# Altium footprint library MCU库PCB图.PcbLib: 8 footprints
Each footprint in its own frame and in the unit in brackets; x right, y up, seen from the top. Pads: shape width x height; smd on the part's side, far side on the other; paste and mask are expansions set on the pad; w line width, h text height; cw(c..) or ccw(c..) is an arc to the next point about the centre after c.
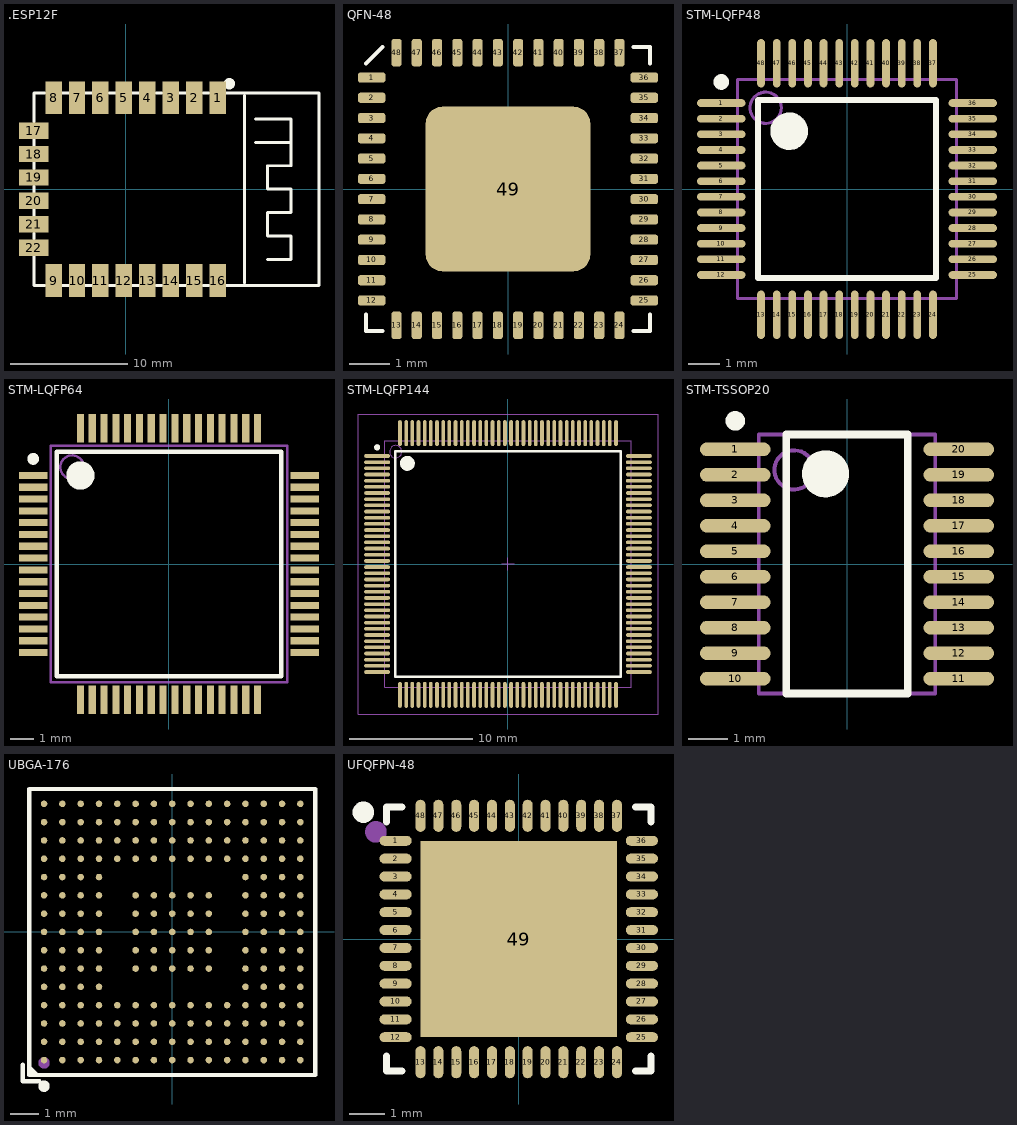
[diagram p0: the footprints below, top view; thin cyan lines are the x and y axes]

## .ESP12F [mm]
pads (22):
  rect 1.4x2.8 smd mask+0.051: 1(7.85,7.8) 2(5.85,7.8) 3(3.85,7.8) 4(1.85,7.8) 5(-0.15,7.8) 6(-2.15,7.8) 7(-4.15,7.8) 8(-6.15,7.8) 9(-6.15,-7.8) 10(-4.15,-7.8) 11(-2.15,-7.8) 12(-0.15,-7.8) 13(1.85,-7.8) 14(3.85,-7.8) 15(5.85,-7.8) 16(7.85,-7.8)
  rect 2.5x1.4 smd mask+0.051: 17(-7.85,5) 18(-7.85,3) 19(-7.85,1) 20(-7.85,-1) 21(-7.85,-3) 22(-7.85,-5)
Top Overlay:
  circle w0.5: c8.85,9 r0.232
  lines w0.254: -7.8,-5.731 -7.8,-8.2 -6.881,-8.2 ; -7.8,-4.269 -7.8,-3.731 ; -7.8,-2.269 -7.8,-1.731 ; -7.8,-0.269 -7.8,0.269 ; -7.8,1.731 -7.8,2.269 ; -7.8,3.731 -7.8,4.269 ; -7.8,5.731 -7.8,8.2 -6.881,8.2 ; -5.419,-8.2 -4.881,-8.2 ; -5.419,8.2 -4.881,8.2 ; -3.419,-8.2 -2.881,-8.2 ; -3.419,8.2 -2.881,8.2 ; -1.419,-8.2 -0.881,-8.2 ; -1.419,8.2 -0.881,8.2 ; 0.581,-8.2 1.119,-8.2 ; 0.581,8.2 1.119,8.2 ; 2.581,-8.2 3.119,-8.2 ; 2.581,8.2 3.119,8.2 ; 4.581,-8.2 5.119,-8.2 ; 4.581,8.2 5.119,8.2 ; 6.581,-8.2 7.119,-8.2 ; 6.581,8.2 7.119,8.2 ; 8.581,-8.2 16.5,-8.2 16.5,8.2 8.581,8.2 ; 10.156,-8.001 10.156,8.001 ; 11.1,4 14.1,4 ; 11.1,6 14.1,6 14.1,4 ; 12.1,-6 14.1,-6 14.1,-4 12.1,-4 12.1,-2 14.1,-2 14.1,0 12.1,0 12.1,2 14.1,2 14.1,4
Mechanical 6:
  circle w0.6: c7.8,8.4 r0.3
3D body "ESP-12F.step": height 2.9, standoff -0.05, extent -7.682,-8 16.318,8

## QFN-48 [mm]
height 4.3
pads (49):
  rrect50% 0.675x0.25 smd: 1(-3.363,2.75) 2(-3.363,2.25) 3(-3.363,1.75) 4(-3.363,1.25) 5(-3.363,0.75) 6(-3.363,0.25) 7(-3.363,-0.25) 8(-3.363,-0.75) 9(-3.363,-1.25) 10(-3.363,-1.75) 11(-3.363,-2.25) 12(-3.363,-2.75) 25(3.363,-2.75) 26(3.363,-2.25) 27(3.363,-1.75) 28(3.363,-1.25) 29(3.363,-0.75) 30(3.363,-0.25) 31(3.363,0.25) 32(3.363,0.75) 33(3.363,1.25) 34(3.363,1.75) 35(3.363,2.25) 36(3.363,2.75)
  rrect50% 0.25x0.675 smd: 13(-2.75,-3.363) 14(-2.25,-3.363) 15(-1.75,-3.363) 16(-1.25,-3.363) 17(-0.75,-3.363) 18(-0.25,-3.363) 19(0.25,-3.363) 20(0.75,-3.363) 21(1.25,-3.363) 22(1.75,-3.363) 23(2.25,-3.363) 24(2.75,-3.363) 37(2.75,3.363) 38(2.25,3.363) 39(1.75,3.363) 40(1.25,3.363) 41(0.75,3.363) 42(0.25,3.363) 43(-0.25,3.363) 44(-0.75,3.363) 45(-1.25,3.363) 46(-1.75,3.363) 47(-2.25,3.363) 48(-2.75,3.363)
  rrect20% 4.064x4.064 smd: 49(0,0)
Top Overlay:
  lines w0.1: -3.5,-3.1 -3.5,-3.5 -3.1,-3.5 ; -3.5,3.1 -3.1,3.5 ; 3.1,-3.5 3.5,-3.5 3.5,-3.1 ; 3.1,3.5 3.5,3.5 3.5,3.1
3D body: height 1, standoff 0.05, extent -3.5,-3.5 3.5,3.5

## STM-LQFP48 [mm]
pads (48):
  oval 1.55x0.25 smd: 1(-4.025,2.75) 2(-4.025,2.25) 3(-4.025,1.75) 4(-4.025,1.25) 5(-4.025,0.75) 6(-4.025,0.25) 7(-4.025,-0.25) 8(-4.025,-0.75) 9(-4.025,-1.25) 10(-4.025,-1.75) 11(-4.025,-2.25) 12(-4.025,-2.75) 25(4.025,-2.75) 26(4.025,-2.25) 27(4.025,-1.75) 28(4.025,-1.25) 29(4.025,-0.75) 30(4.025,-0.25) 31(4.025,0.25) 32(4.025,0.75) 33(4.025,1.25) 34(4.025,1.75) 35(4.025,2.25) 36(4.025,2.75)
  oval 0.25x1.55 smd: 13(-2.75,-4.025) 14(-2.25,-4.025) 15(-1.75,-4.025) 16(-1.25,-4.025) 17(-0.75,-4.025) 18(-0.25,-4.025) 19(0.25,-4.025) 20(0.75,-4.025) 21(1.25,-4.025) 22(1.75,-4.025) 23(2.25,-4.025) 24(2.75,-4.025) 37(2.75,4.025) 38(2.25,4.025) 39(1.75,4.025) 40(1.25,4.025) 41(0.75,4.025) 42(0.25,4.025) 43(-0.25,4.025) 44(-0.75,4.025) 45(-1.25,4.025) 46(-1.75,4.025) 47(-2.25,4.025) 48(-2.75,4.025)
Top Overlay:
  circle w0.6: c-1.85,1.85 r0.3
  circle w0.25: c-4.025,3.425 r0.125
  lines w0.2: -2.85,-2.85 2.85,-2.85 2.85,2.85 -2.85,2.85 -2.85,-2.85
Mechanical 13:
  circle w0.1: c-2.6,2.6 r0.5
  lines w0.1: -3.5,-3.5 3.5,-3.5 3.5,3.5 -3.5,3.5 -3.5,-3.5
3D body: height 1.6, standoff 0.05, extent -3.5,-3.5 3.5,3.5

## STM-LQFP64 [mm] "Thin QFP, 64-Leads, Body 10x10mm, Pitch 0.5mm, ST Recommended"
height 1.6
pads (64):
  rect 1.2x0.3 smd: 1(-5.75,3.75) 2(-5.75,3.25) 3(-5.75,2.75) 4(-5.75,2.25) 5(-5.75,1.75) 6(-5.75,1.25) 7(-5.75,0.75) 8(-5.75,0.25) 9(-5.75,-0.25) 10(-5.75,-0.75) 11(-5.75,-1.25) 12(-5.75,-1.75) 13(-5.75,-2.25) 14(-5.75,-2.75) 15(-5.75,-3.25) 16(-5.75,-3.75) 33(5.75,-3.75) 34(5.75,-3.25) 35(5.75,-2.75) 36(5.75,-2.25) 37(5.75,-1.75) 38(5.75,-1.25) 39(5.75,-0.75) 40(5.75,-0.25) 41(5.75,0.25) 42(5.75,0.75) 43(5.75,1.25) 44(5.75,1.75) 45(5.75,2.25) 46(5.75,2.75) 47(5.75,3.25) 48(5.75,3.75)
  rect 0.3x1.2 smd: 17(-3.75,-5.75) 18(-3.25,-5.75) 19(-2.75,-5.75) 20(-2.25,-5.75) 21(-1.75,-5.75) 22(-1.25,-5.75) 23(-0.75,-5.75) 24(-0.25,-5.75) 25(0.25,-5.75) 26(0.75,-5.75) 27(1.25,-5.75) 28(1.75,-5.75) 29(2.25,-5.75) 30(2.75,-5.75) 31(3.25,-5.75) 32(3.75,-5.75) 49(3.75,5.75) 50(3.25,5.75) 51(2.75,5.75) 52(2.25,5.75) 53(1.75,5.75) 54(1.25,5.75) 55(0.75,5.75) 56(0.25,5.75) 57(-0.25,5.75) 58(-0.75,5.75) 59(-1.25,5.75) 60(-1.75,5.75) 61(-2.25,5.75) 62(-2.75,5.75) 63(-3.25,5.75) 64(-3.75,5.75)
Top Overlay:
  circle w0.25: c-5.75,4.45 r0.125
  circle w0.6: c-3.75,3.75 r0.3
  lines w0.2: -4.75,-4.75 -4.75,4.75 4.75,4.75 4.75,-4.75 -4.75,-4.75
Mechanical 13:
  circle w0.1: c-4.1,4.1 r0.5
  lines w0.1: -5,-5 -5,5 5,5 5,-5 -5,-5
3D body: height 1.6, standoff 0.05, extent -5,-5 5,5

## STM-LQFP144 [mm]
height 1.6
pads (144):
  oval 2.1x0.3 smd: 1(-10.6,8.75) 2(-10.6,8.25) 3(-10.6,7.75) 4(-10.6,7.25) 5(-10.6,6.75) 6(-10.6,6.25) 7(-10.6,5.75) 8(-10.6,5.25) 9(-10.6,4.75) 10(-10.6,4.25) 11(-10.6,3.75) 12(-10.6,3.25) 13(-10.6,2.75) 14(-10.6,2.25) 15(-10.6,1.75) 16(-10.6,1.25) 17(-10.6,0.75) 18(-10.6,0.25) 19(-10.6,-0.25) 20(-10.6,-0.75) 21(-10.6,-1.25) 22(-10.6,-1.75) 23(-10.6,-2.25) 24(-10.6,-2.75) 25(-10.6,-3.25) 26(-10.6,-3.75) 27(-10.6,-4.25) 28(-10.6,-4.75) 29(-10.6,-5.25) 30(-10.6,-5.75) 31(-10.6,-6.25) 32(-10.6,-6.75) 33(-10.6,-7.25) 34(-10.6,-7.75) 35(-10.6,-8.25) 36(-10.6,-8.75) 73(10.6,-8.75) 74(10.6,-8.25) 75(10.6,-7.75) 76(10.6,-7.25) 77(10.6,-6.75) 78(10.6,-6.25) 79(10.6,-5.75) 80(10.6,-5.25) 81(10.6,-4.75) 82(10.6,-4.25) 83(10.6,-3.75) 84(10.6,-3.25) 85(10.6,-2.75) 86(10.6,-2.25) 87(10.6,-1.75) 88(10.6,-1.25) 89(10.6,-0.75) 90(10.6,-0.25) 91(10.6,0.25) 92(10.6,0.75) 93(10.6,1.25) 94(10.6,1.75) 95(10.6,2.25) 96(10.6,2.75) 97(10.6,3.25) 98(10.6,3.75) 99(10.6,4.25) 100(10.6,4.75) 101(10.6,5.25) 102(10.6,5.75) 103(10.6,6.25) 104(10.6,6.75) 105(10.6,7.25) 106(10.6,7.75) 107(10.6,8.25) 108(10.6,8.75)
  oval 0.3x2.1 smd: 37(-8.75,-10.6) 38(-8.25,-10.6) 39(-7.75,-10.6) 40(-7.25,-10.6) 41(-6.75,-10.6) 42(-6.25,-10.6) 43(-5.75,-10.6) 44(-5.25,-10.6) 45(-4.75,-10.6) 46(-4.25,-10.6) 47(-3.75,-10.6) 48(-3.25,-10.6) 49(-2.75,-10.6) 50(-2.25,-10.6) 51(-1.75,-10.6) 52(-1.25,-10.6) 53(-0.75,-10.6) 54(-0.25,-10.6) 55(0.25,-10.6) 56(0.75,-10.6) 57(1.25,-10.6) 58(1.75,-10.6) 59(2.25,-10.6) 60(2.75,-10.6) 61(3.25,-10.6) 62(3.75,-10.6) 63(4.25,-10.6) 64(4.75,-10.6) 65(5.25,-10.6) 66(5.75,-10.6) 67(6.25,-10.6) 68(6.75,-10.6) 69(7.25,-10.6) 70(7.75,-10.6) 71(8.25,-10.6) 72(8.75,-10.6) 109(8.75,10.6) 110(8.25,10.6) 111(7.75,10.6) 112(7.25,10.6) 113(6.75,10.6) 114(6.25,10.6) 115(5.75,10.6) 116(5.25,10.6) 117(4.75,10.6) 118(4.25,10.6) 119(3.75,10.6) 120(3.25,10.6) 121(2.75,10.6) 122(2.25,10.6) 123(1.75,10.6) 124(1.25,10.6) 125(0.75,10.6) 126(0.25,10.6) 127(-0.25,10.6) 128(-0.75,10.6) 129(-1.25,10.6) 130(-1.75,10.6) 131(-2.25,10.6) 132(-2.75,10.6) 133(-3.25,10.6) 134(-3.75,10.6) 135(-4.25,10.6) 136(-4.75,10.6) 137(-5.25,10.6) 138(-5.75,10.6) 139(-6.25,10.6) 140(-6.75,10.6) 141(-7.25,10.6) 142(-7.75,10.6) 143(-8.25,10.6) 144(-8.75,10.6)
Top Overlay:
  circle w0.25: c-10.6,9.45 r0.125
  circle w0.6: c-8.15,8.15 r0.3
  lines w0.2: -9.15,-9.15 -9.15,9.15 9.15,9.15 9.15,-9.15 -9.15,-9.15
Mechanical 13:
  circle w0.1: c-9.1,9.1 r0.5
  lines w0.1: -10,-10 -10,10 10,10 10,-10 -10,-10
Mechanical 15:
  lines w0.05: -12.15,-12.15 -12.15,12.15 12.15,12.15 12.15,-12.15 -12.15,-12.15
  lines w0.1: -0.5,0 0.5,0 ; 0,-0.5 0,0.5
3D body: height 1.6, standoff 0.05, extent -10,-10 10,10

## STM-TSSOP20 [mm]
pads (20):
  oval 1.8x0.35 smd: 1(-2.85,2.925) 2(-2.85,2.275) 3(-2.85,1.625) 4(-2.85,0.975) 5(-2.85,0.325) 6(-2.85,-0.325) 7(-2.85,-0.975) 8(-2.85,-1.625) 9(-2.85,-2.275) 10(-2.85,-2.925) 11(2.85,-2.925) 12(2.85,-2.275) 13(2.85,-1.625) 14(2.85,-0.975) 15(2.85,-0.325) 16(2.85,0.325) 17(2.85,0.975) 18(2.85,1.625) 19(2.85,2.275) 20(2.85,2.925)
Top Overlay:
  circle w0.6: c-0.55,2.3 r0.3
  circle w0.25: c-2.85,3.65 r0.125
  lines w0.2: -1.55,-3.3 1.55,-3.3 1.55,3.3 -1.55,3.3 -1.55,-3.3
Mechanical 13:
  circle w0.1: c-1.35,2.4 r0.5
  lines w0.1: -2.25,-3.3 2.25,-3.3 2.25,3.3 -2.25,3.3 -2.25,-3.3
3D body: height 1.2, standoff 0.05, extent -2.25,-3.3 2.25,3.3

## UBGA-176 [mm] "W1.0_L1.0，已知适用于STM32F407IGH6"
pads (201):
  round 0.232 smd: A1(-4.55,-4.55) A2(-4.55,-3.9) A3(-4.55,-3.25) A4(-4.55,-2.6) A5(-4.55,-1.95) A6(-4.55,-1.3) A7(-4.55,-0.65) A8(-4.55,0) A9(-4.55,0.65) A10(-4.55,1.3) A11(-4.55,1.95) A12(-4.55,2.6) A13(-4.55,3.25) A14(-4.55,3.9) A15(-4.55,4.55) B1(-3.9,-4.55) B2(-3.9,-3.9) B3(-3.9,-3.25) B4(-3.9,-2.6) B5(-3.9,-1.95) B6(-3.9,-1.3) B7(-3.9,-0.65) B8(-3.9,0) B9(-3.9,0.65) B10(-3.9,1.3) B11(-3.9,1.95) B12(-3.9,2.6) B13(-3.9,3.25) B14(-3.9,3.9) B15(-3.9,4.55) C1(-3.25,-4.55) C2(-3.25,-3.9) C3(-3.25,-3.25) C4(-3.25,-2.6) C5(-3.25,-1.95) C6(-3.25,-1.3) C7(-3.25,-0.65) C8(-3.25,0) C9(-3.25,0.65) C10(-3.25,1.3) C11(-3.25,1.95) C12(-3.25,2.6) C13(-3.25,3.25) C14(-3.25,3.9) C15(-3.25,4.55) D1(-2.6,-4.55) D2(-2.6,-3.9) D3(-2.6,-3.25) D4(-2.6,-2.6) D5(-2.6,-1.95) D6(-2.6,-1.3) D7(-2.6,-0.65) D8(-2.6,0) D9(-2.6,0.65) D10(-2.6,1.3) D11(-2.6,1.95) D12(-2.6,2.6) D13(-2.6,3.25) D14(-2.6,3.9) D15(-2.6,4.55) E1(-1.95,-4.55) E2(-1.95,-3.9) E3(-1.95,-3.25) E4(-1.95,-2.6) E12(-1.95,2.6) E13(-1.95,3.25) E14(-1.95,3.9) E15(-1.95,4.55) F1(-1.3,-4.55) F2(-1.3,-3.9) F3(-1.3,-3.25) F4(-1.3,-2.6) F6(-1.3,-1.3) F7(-1.3,-0.65) F8(-1.3,0) F9(-1.3,0.65) F10(-1.3,1.3) F12(-1.3,2.6) F13(-1.3,3.25) F14(-1.3,3.9) F15(-1.3,4.55) G1(-0.65,-4.55) G2(-0.65,-3.9) G3(-0.65,-3.25) G4(-0.65,-2.6) G6(-0.65,-1.3) G7(-0.65,-0.65) G8(-0.65,0) G9(-0.65,0.65) G10(-0.65,1.3) G12(-0.65,2.6) G13(-0.65,3.25) G14(-0.65,3.9) G15(-0.65,4.55) H1(0,-4.55) H2(0,-3.9) H3(0,-3.25) H4(0,-2.6) H6(0,-1.3) H7(0,-0.65) H8(0,0) H9(0,0.65) H10(0,1.3) H12(0,2.6) H13(0,3.25) H14(0,3.9) H15(0,4.55) J1(0.65,-4.55) J2(0.65,-3.9) J3(0.65,-3.25) J4(0.65,-2.6) J6(0.65,-1.3) J7(0.65,-0.65) J8(0.65,0) J9(0.65,0.65) J10(0.65,1.3) J12(0.65,2.6) J13(0.65,3.25) J14(0.65,3.9) J15(0.65,4.55) K1(1.3,-4.55) K2(1.3,-3.9) K3(1.3,-3.25) K4(1.3,-2.6) K6(1.3,-1.3) K7(1.3,-0.65) K8(1.3,0) K9(1.3,0.65) K10(1.3,1.3) K12(1.3,2.6) K13(1.3,3.25) K14(1.3,3.9) K15(1.3,4.55) L1(1.95,-4.55) L2(1.95,-3.9) L3(1.95,-3.25) L4(1.95,-2.6) L12(1.95,2.6) L13(1.95,3.25) L14(1.95,3.9) L15(1.95,4.55) M1(2.6,-4.55) M2(2.6,-3.9) M3(2.6,-3.25) M4(2.6,-2.6) M5(2.6,-1.95) M6(2.6,-1.3) M7(2.6,-0.65) M8(2.6,0) M9(2.6,0.65) M10(2.6,1.3) M11(2.6,1.95) M12(2.6,2.6) M13(2.6,3.25) M14(2.6,3.9) M15(2.6,4.55) N1(3.25,-4.55) N2(3.25,-3.9) N3(3.25,-3.25) N4(3.25,-2.6) N5(3.25,-1.95) N6(3.25,-1.3) N7(3.25,-0.65) N8(3.25,0) N9(3.25,0.65) N10(3.25,1.3) N11(3.25,1.95) N12(3.25,2.6) N13(3.25,3.25) N14(3.25,3.9) N15(3.25,4.55) P1(3.9,-4.55) P2(3.9,-3.9) P3(3.9,-3.25) P4(3.9,-2.6) P5(3.9,-1.95) P6(3.9,-1.3) P7(3.9,-0.65) P8(3.9,0) P9(3.9,0.65) P10(3.9,1.3) P11(3.9,1.95) P12(3.9,2.6) P13(3.9,3.25) P14(3.9,3.9) P15(3.9,4.55) R1(4.55,-4.55) R2(4.55,-3.9) R3(4.55,-3.25) R4(4.55,-2.6) R5(4.55,-1.95) R6(4.55,-1.3) R7(4.55,-0.65) R8(4.55,0) R9(4.55,0.65) R10(4.55,1.3) R11(4.55,1.95) R12(4.55,2.6) R13(4.55,3.25) R14(4.55,3.9) R15(4.55,4.55)
Top Overlay:
  circle w0.2: c-4.55,-5.476 r0.1
  region: -5.076,-4.716 -4.716,-5.076 -5.076,-5.076
  lines w0.152: -5.305,-4.716 -5.305,-5.305 -4.716,-5.305 ; -5.076,-5.076 5.076,-5.076 5.076,5.076 -5.076,5.076 -5.076,-5.076
Top Paste:
  drawing of 201 lines, arcs and shapes, not listed
Mechanical 15:
  circle w0.2: c-4.55,-4.65 r0.1
  region: -5.076,-4.716 -4.716,-5.076 -5.076,-5.076

## UFQFPN-48 [mm]
pads (49):
  oval 0.9x0.28 smd: 1(-3.449,2.751) 2(-3.449,2.25) 3(-3.449,1.75) 4(-3.449,1.25) 5(-3.449,0.749) 6(-3.449,0.249) 7(-3.449,-0.249) 8(-3.449,-0.749) 9(-3.449,-1.25) 10(-3.449,-1.75) 11(-3.449,-2.25) 12(-3.449,-2.751) 25(3.449,-2.751) 26(3.449,-2.25) 27(3.449,-1.75) 28(3.449,-1.25) 29(3.449,-0.749) 30(3.449,-0.249) 31(3.449,0.249) 32(3.449,0.749) 33(3.449,1.25) 34(3.449,1.75) 35(3.449,2.25) 36(3.449,2.751)
  oval 0.28x0.9 smd: 13(-2.751,-3.449) 14(-2.25,-3.449) 15(-1.75,-3.449) 16(-1.25,-3.449) 17(-0.749,-3.449) 18(-0.249,-3.449) 19(0.249,-3.449) 20(0.749,-3.449) 21(1.25,-3.449) 22(1.75,-3.449) 23(2.251,-3.449) 24(2.751,-3.449) 37(2.751,3.449) 38(2.251,3.449) 39(1.75,3.449) 40(1.25,3.449) 41(0.749,3.449) 42(0.249,3.449) 43(-0.249,3.449) 44(-0.749,3.449) 45(-1.25,3.449) 46(-1.75,3.449) 47(-2.25,3.449) 48(-2.751,3.449)
  rect 5.5x5.5 smd: 49(0,0)
Top Overlay:
  lines w0.2: -3.7,-3.275 -3.7,-3.7 -3.275,-3.7 ; -3.7,3.275 -3.7,3.7 -3.275,3.7 ; 3.275,-3.7 3.7,-3.7 3.7,-3.275 ; 3.275,3.7 3.7,3.7 3.7,3.275
  lines w0.3: -4.201,3.549 cw(c-4.351,3.55) -4.201,3.551
Mechanical 15:
  circle w0.3: c-4,3 r0.15
3D body "ALSRobot-QFN48 7x7.step": height 0.78, standoff -0.02, extent -3.51,-3.51 3.51,3.51